# Altium footprint library SON40P120X120X60-7N-D.PcbLib: 1 footprints
Each footprint in its own frame and in the unit in brackets; x right, y up, seen from the top. Pads: shape width x height; smd on the part's side, far side on the other; paste and mask are expansions set on the pad; w line width, h text height; cw(c..) or ccw(c..) is an arc to the next point about the centre after c.
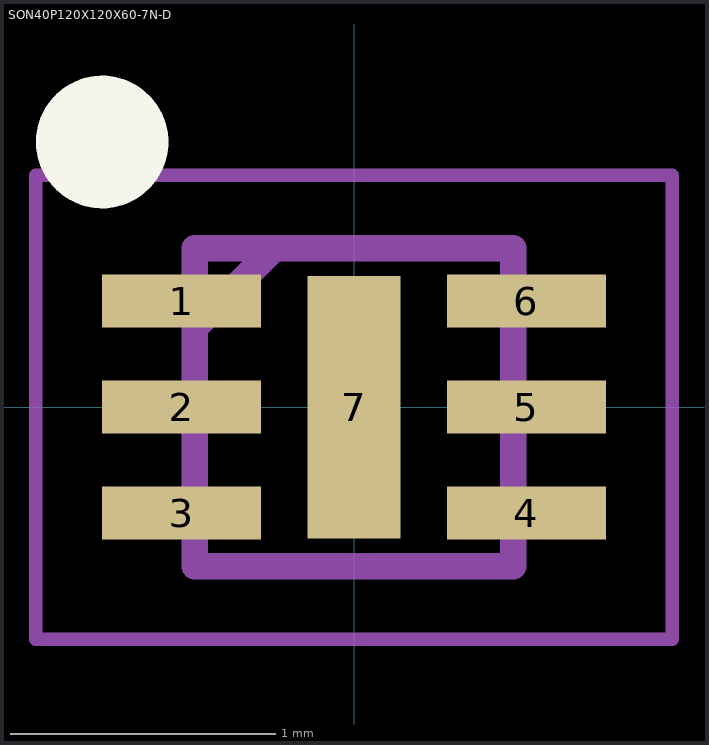
[diagram p0: the footprint, top view; thin cyan lines are the x and y axes]

## SON40P120X120X60-7N-D [mm]
pads (7):
  rect 0.6x0.2 smd: 1(-0.65,0.4) 2(-0.65,0) 3(-0.65,-0.4) 4(0.65,-0.4) 5(0.65,0) 6(0.65,0.4)
  rect 0.35x0.99 smd: 7(0,0)
Top Overlay:
  circle w0.25: c-0.95,1 r0.125
Mechanical 15:
  lines w0.1: -0.6,0.3 -0.3,0.6 ; -0.6,-0.6 0.6,-0.6 0.6,0.6 -0.6,0.6 -0.6,-0.6
Mechanical 20:
  lines w0.05: -1.2,-0.875 1.2,-0.875 1.2,0.875 -1.2,0.875 -1.2,-0.875